# EAGLE library part USB_6P (library Connector)
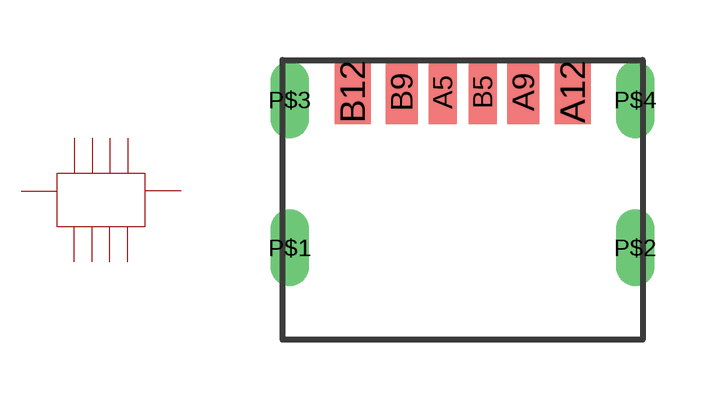
[diagram p0: symbol with the pads of USB_TYPEC_6PIN; footprint USB_TYPEC_6PIN]

Designator prefix -

## USB_6P  [USB_TYPEC_6PIN]
A5  P$1
A9  P$2
A12  P$3
B5  P$4
B9  P$5
B12  P$6
P$1  P$7
P$2  P$8
P$3  P$9
P$4  P$10

## Footprint USB_TYPEC_6PIN (pad centres in mm)
smd 0.7 x 1.6: A5 -0.5,0.2; B5 0.5,0.2
smd 0.8 x 1.6: A9 1.52,0.2; B9 -1.52,0.2
smd 0.9 x 1.6: A12 2.75,0.2; B12 -2.75,0.2
drill 0.45 long: P$1 -4.32,-3.7; P$2 4.32,-3.7; P$3 -4.32,0; P$4 4.32,0